# Altium schematic symbol library 沙漏.SchLib: 8 symbols
Pins are listed as number, name and electrical type; pins without a type are passive.

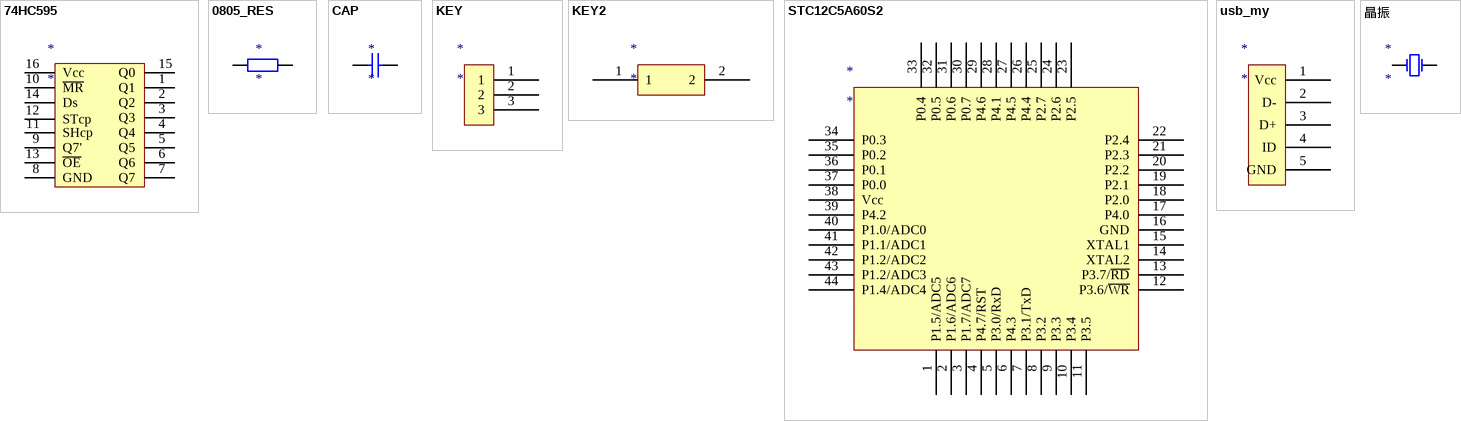
[diagram p0: symbols 74HC595 to 晶振]

## 74HC595
designator *
footprint SOP_16
pins: 1 Q1, 2 Q2, 3 Q3, 4 Q4, 5 Q5, 6 Q6, 7 Q7, 8 GND, 9 Q7', 10 ~{MR}, 11 SHcp, 12 STcp, 13 ~{OE}, 14 Ds, 15 Q0, 16 Vcc

## 0805_RES
designator *
footprint 0805_RES
pins: 1, 2

## CAP
designator *
footprint 1206_CAP
pins: 1, 2

## KEY
designator *
footprint KEY
pins: 1, 2, 3

## KEY2
designator *
footprint KEY2
pins: 1, 2

## STC12C5A60S2
designator *
footprint LQFP44
pins: 1 P1.5/ADC5, 2 P1.6/ADC6, 3 P1.7/ADC7, 4 P4.7/RST, 5 P3.0/RxD, 6 P4.3, 7 P3.1/TxD, 8 P3.2, 9 P3.3, 10 P3.4, 11 P3.5, 12 P3.6/~{WR}, 13 P3.7/~{RD}, 14 XTAL2, 15 XTAL1, 16 GND, 17 P4.0, 18 P2.0, 19 P2.1, 20 P2.2, 21 P2.3, 22 P2.4, 23 P2.5, 24 P2.6, 25 P2.7, 26 P4.4, 27 P4.5, 28 P4.1, 29 P4.6, 30 P0.7, 31 P0.6, 32 P0.5, 33 P0.4, 34 P0.3, 35 P0.2, 36 P0.1, 37 P0.0, 38 Vcc, 39 P4.2, 40 P1.0/ADC0, 41 P1.1/ADC1, 42 P1.2/ADC2, 43 P1.2/ADC3, 44 P1.4/ADC4

## usb_my
designator *
footprint usb_my
pins: 1 Vcc, 2 D-, 3 D+, 4 ID, 5 GND

## 晶振
designator *
footprint XTAL_my
pins: 1 OSC1, 2 OSC2